# Altium footprint library Components - 18.08.25 - 15.16.PcbLib: 1 footprints
Each footprint in its own frame and in the unit in brackets; x right, y up, seen from the top. Pads: shape width x height; smd on the part's side, far side on the other; paste and mask are expansions set on the pad; w line width, h text height; cw(c..) or ccw(c..) is an arc to the next point about the centre after c.
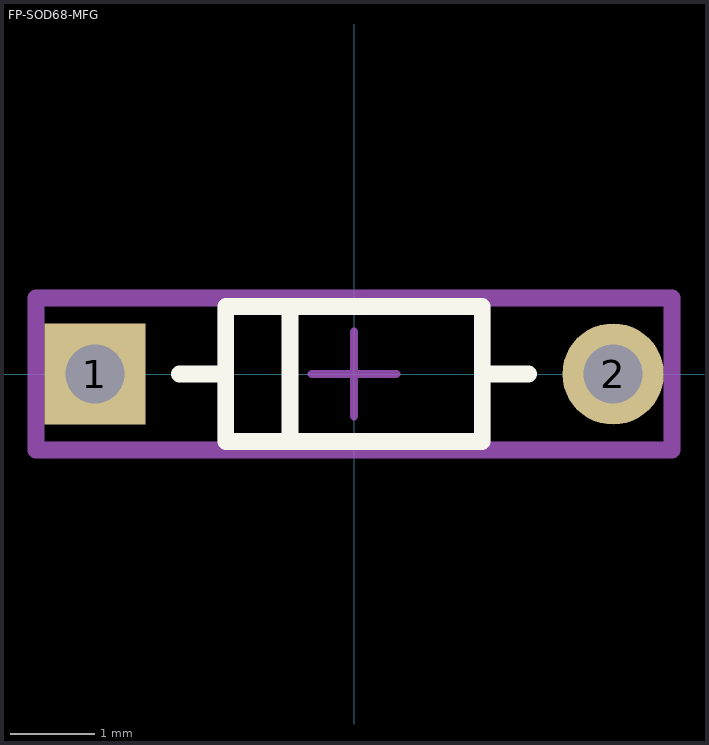
[diagram p0: the footprint, top view; thin cyan lines are the x and y axes]

## FP-SOD68-MFG [mm]
pads (2):
  rect 1.2x1.2 hole 0.7 paste-2539.97 mask+0: 1(-3.07,0)
  round 1.2 hole 0.7 paste-2539.97 mask+0: 2(3.07,0)
Top Overlay:
  lines w0.2: -2.07,0 -1.52,0 ; -0.76,-0.73 -0.76,0.73 ; 1.52,0 2.07,0 ; -1.52,-0.8 -1.52,0.8 1.52,0.8 1.52,-0.8 -1.52,-0.8
Top Assembly:
  lines w0.2: -3.77,-0.9 -3.77,0.9 3.77,0.9 3.77,-0.9 -3.77,-0.9
  text ".Designator" at 0,0.188 h1
Top 3D Body:
  lines w0.2: -1.52,-0.8 -1.52,0.8 1.52,0.8 1.52,-0.8 -1.52,-0.8
Top Courtyard:
  lines w0.2: -3.77,-0.9 -3.77,0.9 3.77,0.9 3.77,-0.9 -3.77,-0.9
Top Component Center:
  lines w0.1: -0.5,0 0.5,0 ; 0,-0.5 0,0.5
3D body "Diode_Nexperia_BAT85_113_eec.STEP": height 0.25, standoff 0, extent -3.77,-0.9 3.77,0.9